# Altium schematic symbol library Schlib_Panasonic.SchLib: 7 symbols
Pins are listed as number, name and electrical type; pins without a type are passive.

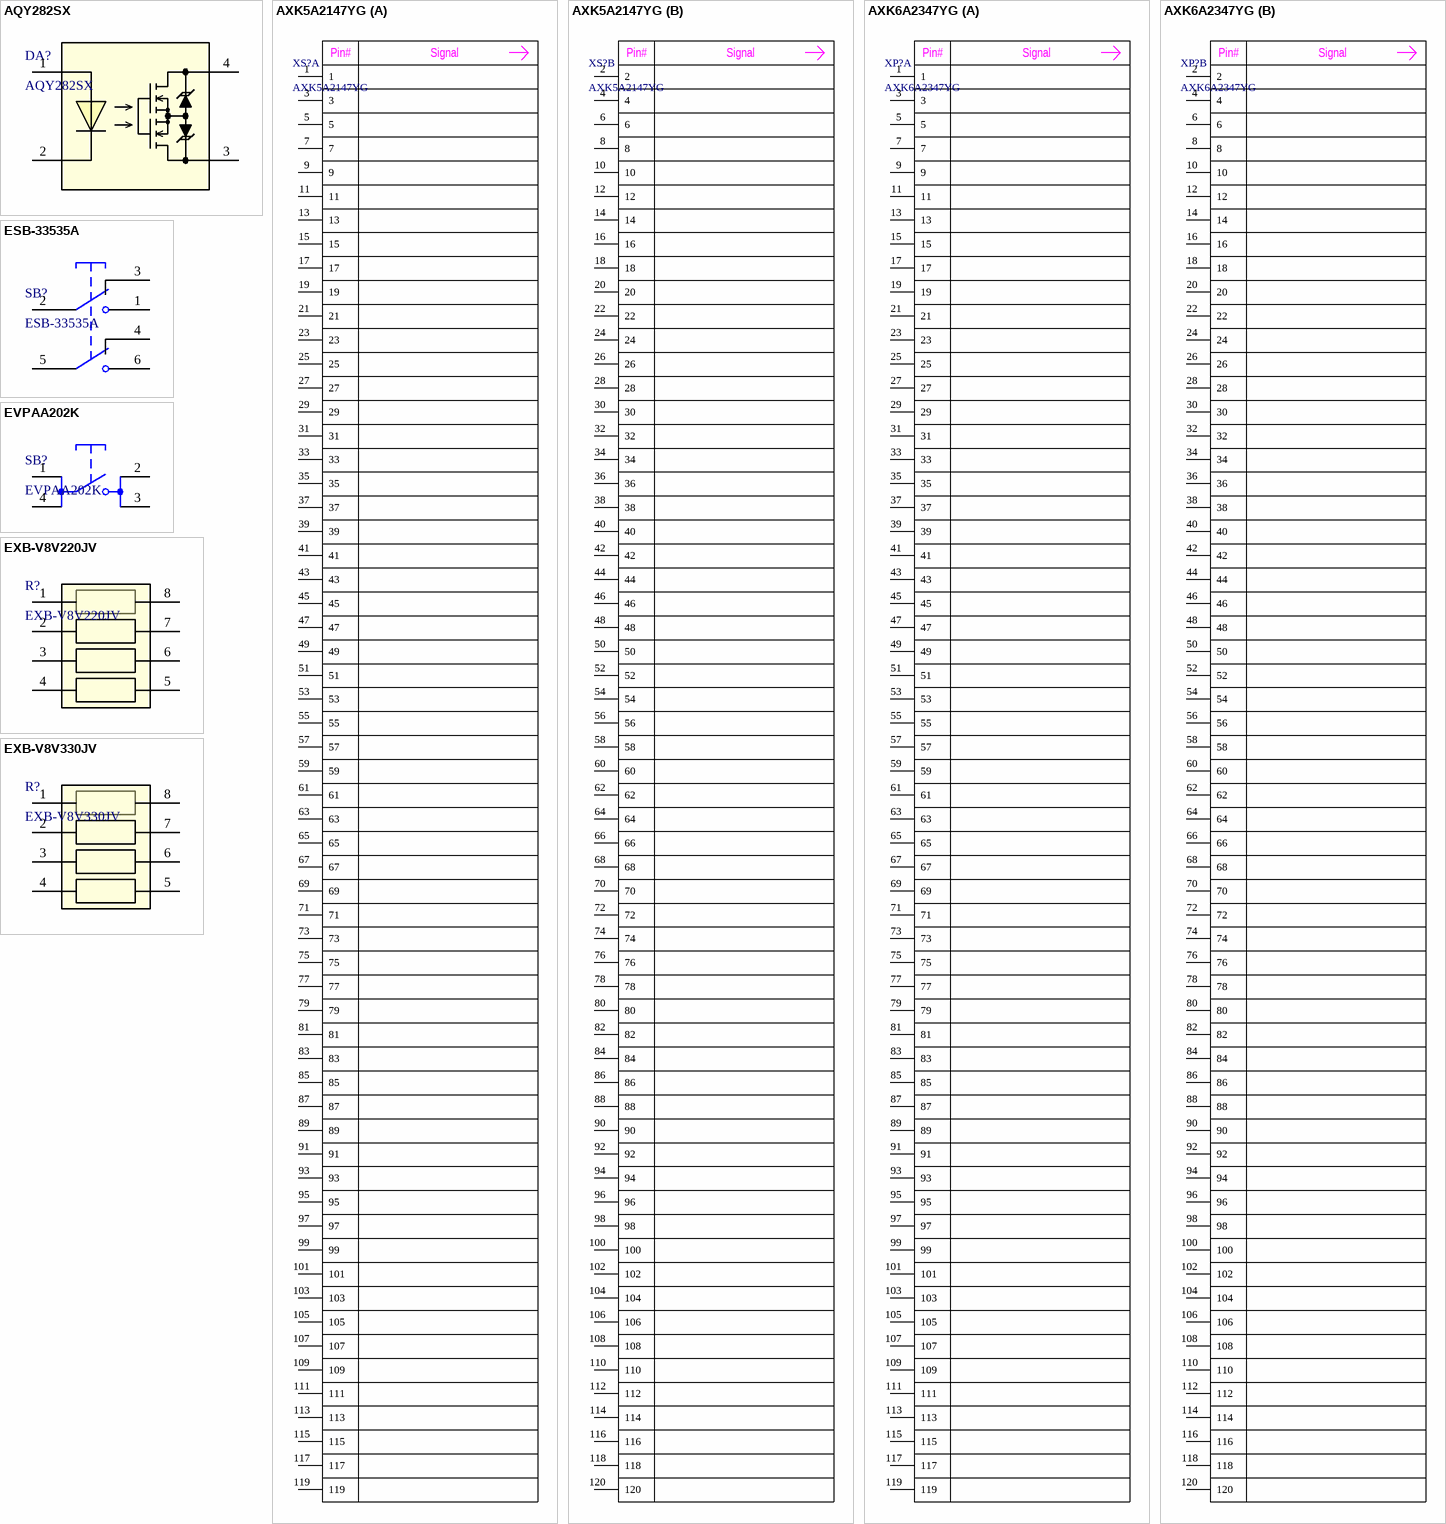
[diagram p0: symbols AQY282SX to EXB-V8V330JV]

## AQY282SX
designator DA?
SSR RELAY SPST-NO 500MA 0-60V; Manufacturer: Panasonic; Part Number: AQY282SX
footprint SOP-4 (4-SOP (0.173"", 4.40mm))
pins: 1, 2, 3, 4

## AXK5A2147YG
designator XS?
Socket 120 pin; Manufacturer: Panasonic; Compliance Header Part Number: AXK6A2347YG; Part Number: AXK5A2147YG
footprint AXK5A2147YG (Socket 120 pin)
part A pins: 1, 3, 5, 7, 9, 11, 13, 15, 17, 19, 21, 23, 25, 27, 29, 31, 33, 35, 37, 39, 41, 43, 45, 47, 49, 51, 53, 55, 57, 59, 61, 63, 65, 67, 69, 71, 73, 75, 77, 79, 81, 83, 85, 87, 89, 91, 93, 95, 97, 99, 101, 103, 105, 107, 109, 111, 113, 115, 117, 119
part B pins: 2, 4, 6, 8, 10, 12, 14, 16, 18, 20, 22, 24, 26, 28, 30, 32, 34, 36, 38, 40, 42, 44, 46, 48, 50, 52, 54, 56, 58, 60, 62, 64, 66, 68, 70, 72, 74, 76, 78, 80, 82, 84, 86, 88, 90, 92, 94, 96, 98, 100, 102, 104, 106, 108, 110, 112, 114, 116, 118, 120
part A text: Pin#; Signal
part B text: Pin#; Signal

## AXK6A2347YG
designator XP?
Header 120 pin; Manufacturer: Panasonic; Compliance Socket Part Number: AXK5A2147YG; Part Number: AXK6A2347YG
footprint AXK6A2347YG (Header 120 pin)
part A pins: 1, 3, 5, 7, 9, 11, 13, 15, 17, 19, 21, 23, 25, 27, 29, 31, 33, 35, 37, 39, 41, 43, 45, 47, 49, 51, 53, 55, 57, 59, 61, 63, 65, 67, 69, 71, 73, 75, 77, 79, 81, 83, 85, 87, 89, 91, 93, 95, 97, 99, 101, 103, 105, 107, 109, 111, 113, 115, 117, 119
part B pins: 2, 4, 6, 8, 10, 12, 14, 16, 18, 20, 22, 24, 26, 28, 30, 32, 34, 36, 38, 40, 42, 44, 46, 48, 50, 52, 54, 56, 58, 60, 62, 64, 66, 68, 70, 72, 74, 76, 78, 80, 82, 84, 86, 88, 90, 92, 94, 96, 98, 100, 102, 104, 106, 108, 110, 112, 114, 116, 118, 120
part A text: Pin#; Signal
part B text: Pin#; Signal

## ESB-33535A
designator SB?
Swicth push DPDT 0.2A 14V; Manufacturer: Panasonic; Part Number: ESB-33535A
footprint ESB-33535A
footprint ESB-33535A(with AKTSC22K)
pins: 1, 2, 3, 4, 5, 6

## EVPAA202K
designator SB?
3.5 mm2.9 mm SMD Tact Button; Manufacturer: Panasonic; Part Number: EVPAA202K
footprint EVPAA202K
pins: 1, 2, 3, 4

## EXB-V8V220JV
designator R?
Resistros Array 22 Ohm; Manufacturer: Panasonic; Part Number: EXB-V8V220JV
pins: 1, 2, 3, 4, 5, 6, 7, 8

## EXB-V8V330JV
designator R?
Resistros Array 33 Ohm; Manufacturer: Panasonic; Part Number: EXB-V8V330JV
pins: 1, 2, 3, 4, 5, 6, 7, 8